# EAGLE library part 74HC165 (library FaBo-LogicIC)
NXP semiconductors 8-bit parallel-in/serial out shift register high-spped Si-gate CMOS device
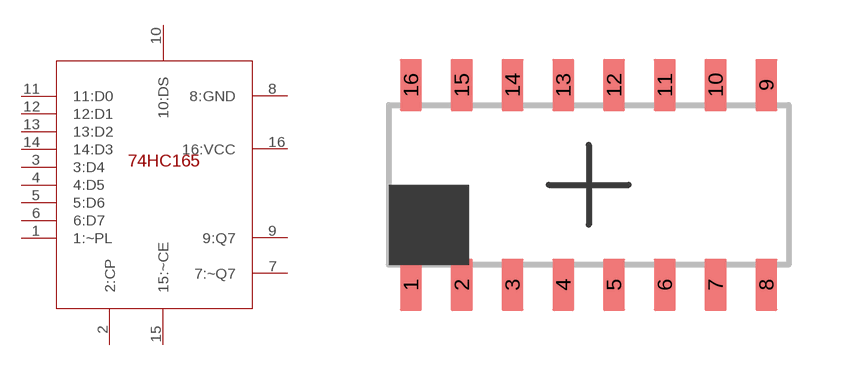
[diagram p2: symbol with the pads of SO16; footprint SO16]

Designator prefix -

## 74HC165  [SO16]
1  1:~PL
2  2:CP
3  3:D4
4  4:D5
5  5:D6
6  6:D7
7  7:~Q7
8  8:GND
9  9:Q7
10  10:DS
11  11:D0
12  12:D1
13  13:D2
14  14:D3
15  15:~CE
16  16:VCC

## Footprint SO16 (pad centres in mm)
smd 0.55 x 1.3: 1 -4.445,-2.5; 2 -3.175,-2.5; 3 -1.905,-2.5; 4 -0.635,-2.5; 5 0.635,-2.5; 6 1.905,-2.5; 7 3.175,-2.5; 8 4.445,-2.5; 9 4.445,2.5; 10 3.175,2.5; 11 1.905,2.5; 12 0.635,2.5; 13 -0.635,2.5; 14 -1.905,2.5; 15 -3.175,2.5; 16 -4.445,2.5